# EAGLE library part PIC16F877A-I_PT (library PIC16F877A-I_PT)
Microcontroller,PIC16F877A-I/PT 20MHz Source: Datasheet <http://ww1.microchip.com/downloads/en/DeviceDoc/39582C.pdf>
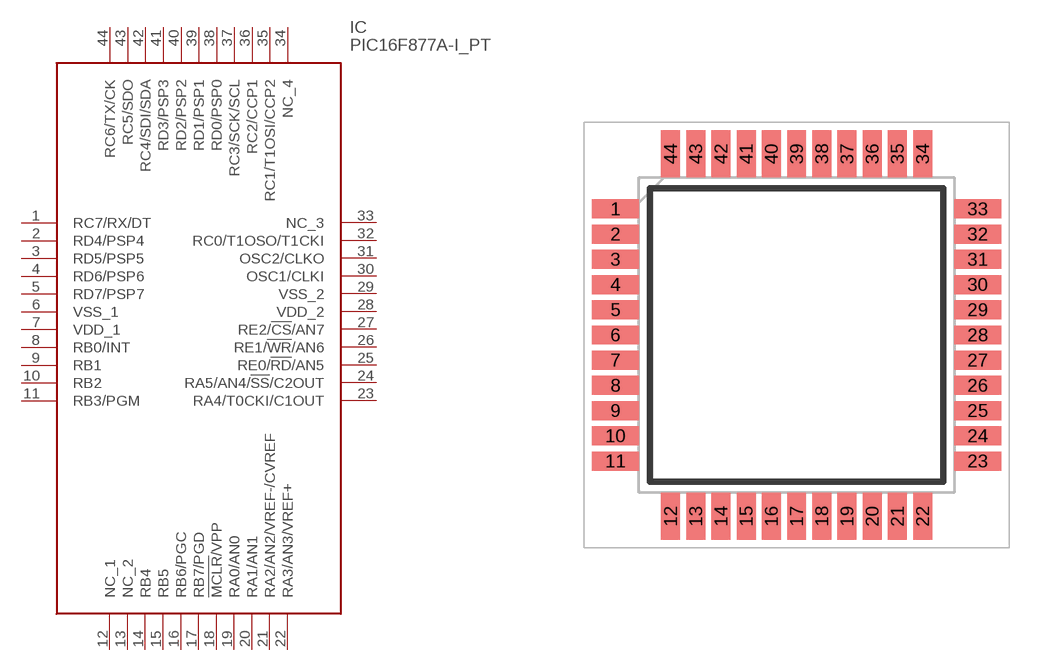
[diagram p0: symbol with the pads of QFP80P1200X1200X120-44N; footprint QFP80P1200X1200X120-44N]

Designator prefix IC

## PIC16F877A-I_PT (Description: Microcontroller,PIC16F877A-I/PT 20MHz; Height: 1.2mm; Manufacturer_Name: Microchip; Manufacturer_Part_Number: PIC16F877A-I/PT; Mouser_Part_Number: 579-PIC16F877A-I/PT; Mouser_Price-Stock: https://www.mouser.co.uk/ProductDetail/Microchip-Technology/PIC16F877A-I-PT?qs=0R2K%2FH4DmMNSpbltaNbXPg%3D%3D)  [QFP80P1200X1200X120-44N]
1  RC7/RX/DT
2  RD4/PSP4
3  RD5/PSP5
4  RD6/PSP6
5  RD7/PSP7
6  VSS_1
7  VDD_1
8  RB0/INT
9  RB1
10  RB2
11  RB3/PGM
12  NC_1
13  NC_2
14  RB4
15  RB5
16  RB6/PGC
17  RB7/PGD
18  !MCLR!/VPP
19  RA0/AN0
20  RA1/AN1
21  RA2/AN2/VREF-/CVREF
22  RA3/AN3/VREF+
23  RA4/T0CKI/C1OUT
24  RA5/AN4/!SS!/C2OUT
25  RE0/!RD!/AN5
26  RE1/!WR!/AN6
27  RE2/!CS!/AN7
28  VDD_2
29  VSS_2
30  OSC1/CLKI
31  OSC2/CLKO
32  RC0/T1OSO/T1CKI
33  NC_3
34  NC_4
35  RC1/T1OSI/CCP2
36  RC2/CCP1
37  RC3/SCK/SCL
38  RD0/PSP0
39  RD1/PSP1
40  RD2/PSP2
41  RD3/PSP3
42  RC4/SDI/SDA
43  RC5/SDO
44  RC6/TX/CK

## Footprint QFP80P1200X1200X120-44N (pad centres in mm)
(PT)44-Lead(TQFP)2002ver
smd 1.5 x 0.6: 1 -5.75,4; 2 -5.75,3.2; 3 -5.75,2.4; 4 -5.75,1.6; 5 -5.75,0.8; 6 -5.75,0; 7 -5.75,-0.8; 8 -5.75,-1.6; 9 -5.75,-2.4; 10 -5.75,-3.2; 11 -5.75,-4; 23 5.75,-4; 24 5.75,-3.2; 25 5.75,-2.4; 26 5.75,-1.6; 27 5.75,-0.8; 28 5.75,0; 29 5.75,0.8; 30 5.75,1.6; 31 5.75,2.4; 32 5.75,3.2; 33 5.75,4
smd 0.6 x 1.5: 12 -4,-5.75; 13 -3.2,-5.75; 14 -2.4,-5.75; 15 -1.6,-5.75; 16 -0.8,-5.75; 17 0,-5.75; 18 0.8,-5.75; 19 1.6,-5.75; 20 2.4,-5.75; 21 3.2,-5.75; 22 4,-5.75; 34 4,5.75; 35 3.2,5.75; 36 2.4,5.75; 37 1.6,5.75; 38 0.8,5.75; 39 0,5.75; 40 -0.8,5.75; 41 -1.6,5.75; 42 -2.4,5.75; 43 -3.2,5.75; 44 -4,5.75